# EAGLE library part R1LV0408D (library mike-temp)
4M SRAM (512-kword × 8-bit) The R1LV0408D is a 4-Mbit static RAM organized 512-kword × 8-bit, fabricated by Renesas?s high performance 0.15?m CMOS and TFT technologies. R1LV0408D Series has realized higher density, higher performance and low power consumption. The R1LV0408D Series offers low power standby power dissipation; therefore, it is suitable for battery backup systems. It has packaged in 32-pin SOP, 32-pin TSOP II and 32-pin STSOP. Features ? Single 3 V supply: 2.7 V to 3.6 V ? Access time: 55/70 ns (max) ? Power dissipation: Standby: 3 ?W (typ) ? Equal access and cycle times ? Common data input and output. ? Three state output ? All inputs and outputs directly TTL compatible. ? Battery backup operation.
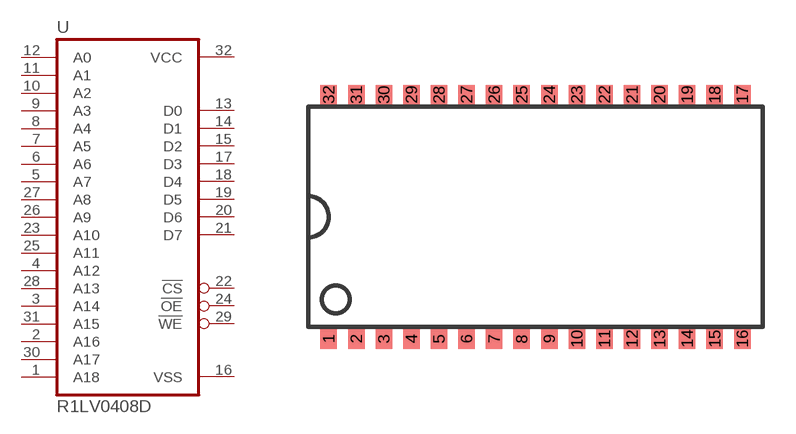
[diagram p13: symbol with the pads of TSOPII32; footprint TSOPII32]

Designator prefix U

## R1LV0408DSB  [TSOPII32]
1  A18  in
2  A16  in
3  A14  in
4  A12  in
5  A7  in
6  A6  in
7  A5  in
8  A4  in
9  A3  in
10  A2  in
11  A1  in
12  A0  in
13  D0
14  D1
15  D2
16  VSS  pwr
17  D3
18  D4
19  D5
20  D6
21  D7
22  !CS  in
23  A10  in
24  !OE  in
25  A11  in
26  A9  in
27  A8  in
28  A13  in
29  !WE  in
30  A17  in
31  A15  in
32  VCC  pwr

## Footprint TSOPII32 (pad centres in mm)
smd 0.76 x 0.9: 1 -9.525,-5.63; 2 -8.255,-5.63; 3 -6.985,-5.63; 4 -5.715,-5.63; 5 -4.445,-5.63; 6 -3.175,-5.63; 7 -1.905,-5.63; 8 -0.635,-5.63; 9 0.635,-5.63; 10 1.905,-5.63; 11 3.175,-5.63; 12 4.445,-5.63; 13 5.715,-5.63; 14 6.985,-5.63; 15 8.255,-5.63; 16 9.525,-5.63; 17 9.525,5.63; 18 8.255,5.63; 19 6.985,5.63; 20 5.715,5.63; 21 4.445,5.63; 22 3.175,5.63; 23 1.905,5.63; 24 0.635,5.63; 25 -0.635,5.63; 26 -1.905,5.63; 27 -3.175,5.63; 28 -4.445,5.63; 29 -5.715,5.63; 30 -6.985,5.63; 31 -8.255,5.63; 32 -9.525,5.63